# EAGLE library part DS8065 (library IC)
3A,2MHz,Synchronous Step-Down Converter
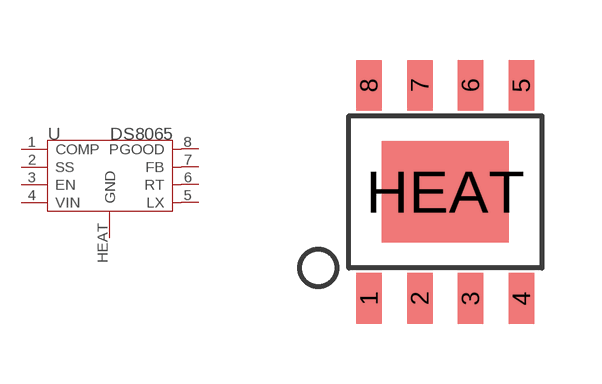
[diagram p37: symbol with the pads of SOP8; footprint SOP8]

Designator prefix U

## DS8065-SOP8  [SOP8]
1  COMP
2  SS  in
3  EN  in
4  VIN  in
5  LX  out
6  RT  in
7  FB  in
8  PGOOD  out
HEAT  GND  out

## Footprint SOP8 (pad centres in mm)
smd 0.635 x 1.27: 1 -1.905,-2.667; 2 -0.635,-2.667; 3 0.635,-2.667; 4 1.905,-2.667; 5 1.905,2.667; 6 0.635,2.667; 7 -0.635,2.667; 8 -1.905,2.667
smd 3.175 x 2.54: HEAT 0,0